# Altium schematic symbol library nRF24L01Connector.SchLib: 1 symbol
Pins are listed as number, name and electrical type; pins without a type are passive.

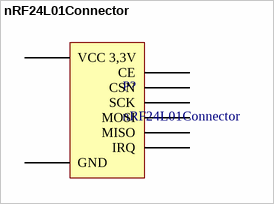
[diagram p0: symbol nRF24L01Connector]

## nRF24L01Connector
designator P?
pins: 1 VCC 3,3V, 2 GND, 3 CE, 4 CSN, 5 SCK, 6 MOSI, 7 MISO, 8 IRQ